# Altium schematic symbol library BSF110N06NT3 G.SchLib: 1 symbol
Pins are listed as number, name and electrical type; pins without a type are passive.

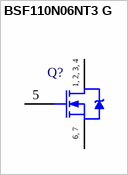
[diagram p0: symbol BSF110N06NT3 G]

## BSF110N06NT3 G
designator Q?
N-Channel OptiMOS 3 Power-MOSFET, 60 V VDS, 47 A ID, -40 to 150 degC, MG-WDSON-2-4, Reel, Green; Manufacturer: Infineon; PartNumber: BSF110N06NT3 G; Green: TRUE; ID (max): 47 A; IDpuls (max): 188 A; Polarity: N; Ptot (max): 38 W; QG: 34 nC; RDS (on) (max): 11 Ohm; Rth: 1 K/W; RthJA (max): 58 K/W; VDS (max): 60 V; VGS(th) (max): 4 V; VGS(th) (min): 2 V; DatasheetVersion: Rev. 2.0; PackageVersion: Jun-09; PackageReference: MG-WDSON-2-4; PackageDescription: 7-Pin Metal Green Very Very Thin Profile Dual Small Outline Non-Leaded Package; Halogen-free: TRUE; Packing: Reel; RthJC (max): 1 K/W; Mounting Technology: Surface Mount; ComponentLink1Description: Manufacturer URL; ComponentLink1URL: http://www.infineon.com/; ComponentLink2Description: Datasheet; ComponentLink2URL: http://www.infineon.com/dgdl/BSF110N06NT3_G_rev2.pdf?folderId=db3a304313b8b5a60113cee8763b02d7&fileId=db3a3043382e837301387b92fdc80c37; ComponentLink3Description: Package Specification; ComponentLink3URL: http://www.infineon.com/dgdl/MG-WDSON-2-ST-Package_Overview.pdf?folderId=db3a30431f848401011fb8308495599c&fileId=db3a30431f848401011fb895d87a59e6
footprint INF-MG-WDSON-2-4_V (WDSON, 7-Leads, Body 4x3.83mm)
pins: 1 DRAIN, 2 DRAIN, 3 DRAIN, 4 DRAIN, 5 GATE, 6 SOURCE, 7 SOURCE
text: 1, 2, 3, 4; 6, 7